# Altium schematic symbol library QUTMS_RelayLibrary.SchLib: 4 symbols
Pins are listed as number, name and electrical type; pins without a type are passive.

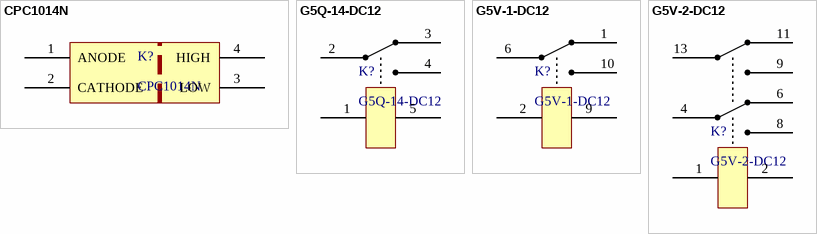
[diagram p0: symbols CPC1014N to G5V-2-DC12]

## CPC1014N
designator K?
Solid State SPST-NO (1 Form A) 4-SOP (0.150", 3.81mm)
footprint CPC1014N
pins: 1 ANODE, 2 CATHODE, 3 LOW, 4 HIGH

## G5Q-14-DC12
designator K?
General Purpose Relay SPDT (1 Form C) 12VDC Coil Through Hole, 12V, 16A
footprint G5Q-14
pins: 1, 2, 3, 4, 5

## G5V-1-DC12
designator K?
General Purpose Relay SPDT (1 Form C) Through Hole, 12V, 2A
footprint G5V-1
pins: 1, 2, 6, 9, 10

## G5V-2-DC12
designator K?
General Purpose Relay DPDT (2 Form C) Through Hole, 12V, 2A
footprint G5V-2
pins: 1, 2, 4, 6, 8, 9, 11, 13